# Altium footprint library EMSN-142-0761-881-5_V.PcbLib: 1 footprints
Each footprint in its own frame and in the unit in brackets; x right, y up, seen from the top. Pads: shape width x height; smd on the part's side, far side on the other; paste and mask are expansions set on the pad; w line width, h text height; cw(c..) or ccw(c..) is an arc to the next point about the centre after c.
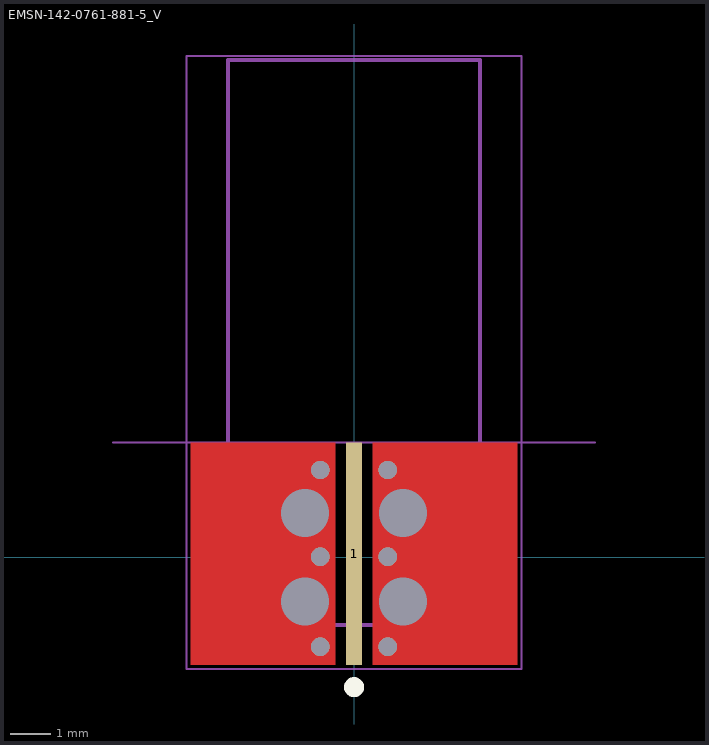
[diagram p0: the footprint, top view; thin cyan lines are the x and y axes]

## EMSN-142-0761-881-5_V [mil] "Jack Receptacle - PC Mount, Body Radius 6.27mm, Body Length 9.52mm"
height 128.43
pads (5):
  rect 16x218 smd: 1(0,3.46)
  round 0 hole 47: 2(-48,43.5) 3(48,43.5) 4(-48,-43.5) 5(48,-43.5)
via 33,0.5 diameter 18 hole 18
via -33,0.5 diameter 18 hole 18
via 33,85.5 diameter 18 hole 18
via -33,85.5 diameter 18 hole 18
via -33,-87.5 diameter 18 hole 18
via 33,-87.5 diameter 18 hole 18
Top Layer:
  rectangle: 18,-105.55 160,112.46
  region: -18,112.5 -160,112.5 -160,-105.5 -18,-105.5
Top Overlay:
  circle w9.84: c0,-127.2 r4.92
Mechanical 6:
  lines w1.97: -236.22,112.48 236.22,112.48
  text "BOARD EDGE" at -355,120 h11.81
  text "16 mil reference trace for CPW line" at 20,-135 h19.68
Mechanical 13:
  lines w3.94: 123.5,-66.49 -123.5,-66.49 -123.5,487.31 123.5,487.31 123.5,-62.99
Mechanical 15:
  lines w1.97: -163.94,-109.49 -163.94,491.26 163.94,491.26 163.94,-109.49 -163.94,-109.49
3D body: height 128.43, standoff -118.43, extent -123.42,-66.49 123.43,487.31